# EAGLE library part RXM-900-HP3-PPS (library rfc)
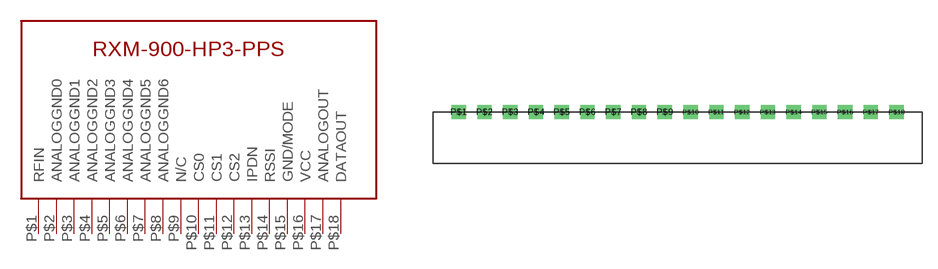
[diagram p1: symbol with the pads of SIP-18; footprint SIP-18]

Designator prefix -

## RXM-900-HP3-PPS  [SIP-18]
P$1  RFIN
P$2  ANALOGGND0
P$3  ANALOGGND1
P$4  ANALOGGND2
P$5  ANALOGGND3
P$6  ANALOGGND4
P$7  ANALOGGND5
P$8  ANALOGGND6
P$9  N/C
P$10  CS0
P$11  CS1
P$12  CS2
P$13  IPDN
P$14  RSSI
P$15  GND/MODE
P$16  VCC
P$17  ANALOGOUT
P$18  DATAOUT

## Footprint SIP-18 (pad centres in mm)
drill 0.9 square: P$1 2.54,0; P$2 5.08,0; P$3 7.62,0; P$4 10.16,0; P$5 12.7,0; P$6 15.24,0; P$7 17.78,0; P$8 20.32,0; P$9 22.86,0; P$10 25.4,0; P$11 27.94,0; P$12 30.48,0; P$13 33.02,0; P$14 35.56,0; P$15 38.1,0; P$16 40.64,0; P$17 43.18,0; P$18 45.72,0